# Altium footprint library soed_new.PcbLib: 46 footprints (part 1 of 3)
Each footprint in its own frame and in the unit in brackets; x right, y up, seen from the top. Pads: shape width x height; smd on the part's side, far side on the other; paste and mask are expansions set on the pad; w line width, h text height; cw(c..) or ccw(c..) is an arc to the next point about the centre after c.
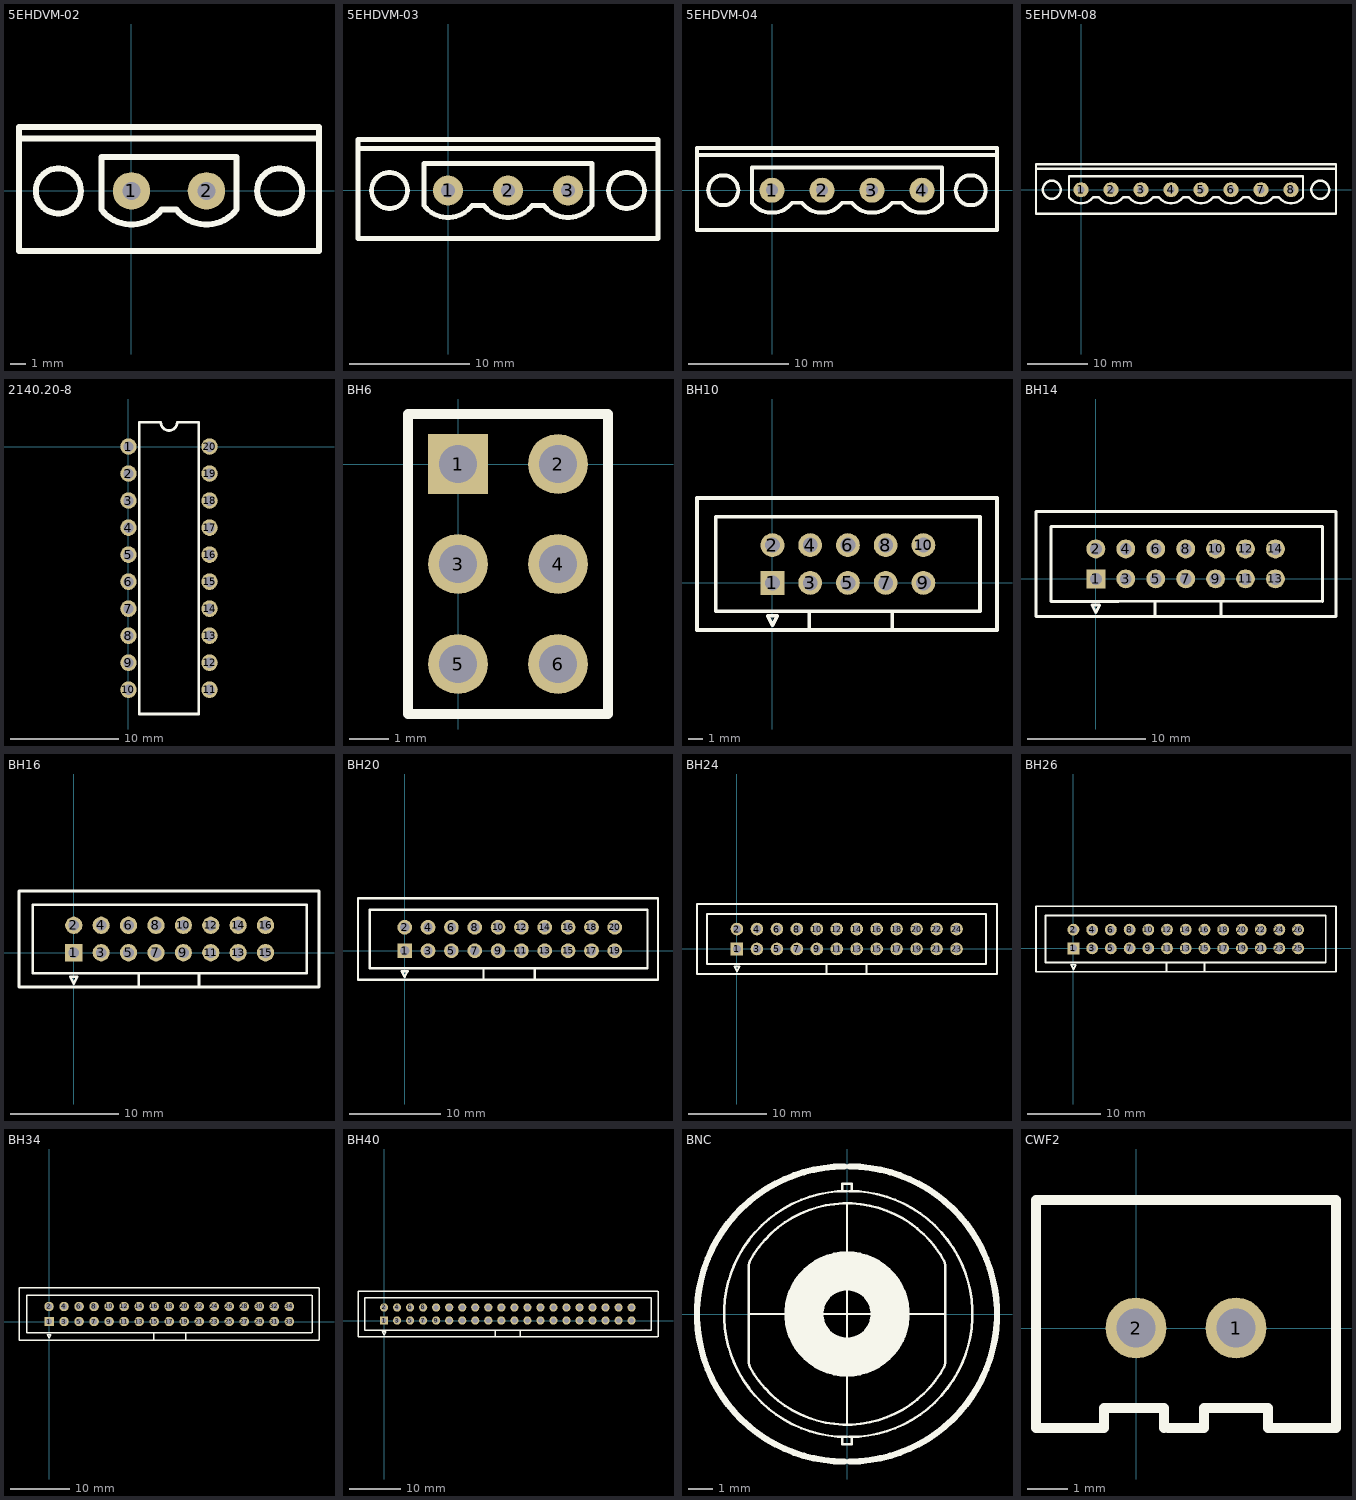
[diagram p0: the footprints below, top view; thin cyan lines are the x and y axes]

## 5EHDVM-02 [mm]
pads (2):
  round 2.5 hole 1.2: 1(0,0) 2(5,0)
Top Overlay:
  lines w0.4: -7.25,3.5 12.5,3.5 ; -2,-1.25 -2,2.25 7,2.25 7,-1.25 ; -1.999,-1.251 ccw(c0,0.25) 1.999,-1.251 ; 2,-1.25 3,-1.25 ; 3.001,-1.251 ccw(c5,0.25) 6.999,-1.251 ; -7.5,-4 12.5,-4 12.5,4.25 -7.5,4.25 -7.5,-4 ; -6.375,0 cw(c-4.875,0) -3.375,0 cw(c-4.875,0) -6.375,0 ; 8.375,0 cw(c9.875,0) 11.375,0 cw(c9.875,0) 8.375,0

## 5EHDVM-03 [mm]
pads (3):
  round 2.5 hole 1.2: 1(0,0) 2(5,0) 3(10,0)
Top Overlay:
  lines w0.4: -7.25,3.5 17.5,3.5 ; -2,-1.25 -2,2.25 12,2.25 12,-1.25 ; -1.999,-1.251 ccw(c0,0.25) 1.999,-1.251 ; 2,-1.25 3,-1.25 ; 3.001,-1.251 ccw(c5,0.25) 6.999,-1.251 ; 7,-1.25 8,-1.25 ; 8.001,-1.251 ccw(c10,0.25) 11.999,-1.251 ; -7.5,-4 17.5,-4 17.5,4.25 -7.5,4.25 -7.5,-4 ; -6.375,0 cw(c-4.875,0) -3.375,0 cw(c-4.875,0) -6.375,0 ; 13.375,0 ccw(c14.875,0) 16.375,0 ccw(c14.875,0) 13.375,0

## 5EHDVM-04 [mm]
pads (4):
  round 2.5 hole 1.2: 1(0,0) 2(5,0) 3(10,0) 4(15,0)
Top Overlay:
  lines w0.4: -7.25,3.5 22.5,3.5 ; -2,-1.25 -2,2.25 17,2.25 17,-1.25 ; -1.999,-1.251 ccw(c0,0.25) 1.999,-1.251 ; 2,-1.25 3,-1.25 ; 3.001,-1.251 ccw(c5,0.25) 6.999,-1.251 ; 7,-1.25 8,-1.25 ; 8.001,-1.251 ccw(c10,0.25) 11.999,-1.251 ; 12,-1.25 13,-1.25 ; 13.001,-1.251 ccw(c15,0.25) 16.999,-1.251 ; -7.5,-4 22.5,-4 22.5,4.25 -7.5,4.25 -7.5,-4 ; -6.375,0 cw(c-4.875,0) -3.375,0 cw(c-4.875,0) -6.375,0 ; 18.375,0 cw(c19.875,0) 21.375,0 cw(c19.875,0) 18.375,0

## 5EHDVM-08 [mm]
pads (8):
  round 2.5 hole 1.2: 1(0,0) 2(5,0) 3(10,0) 4(15,0) 5(20,0) 6(25,0) 7(30,0) 8(35,0)
Top Overlay:
  lines w0.4: -7.25,3.5 42.5,3.5 ; -2,-1.25 -2,2.25 37,2.25 37,-1.25 ; -1.999,-1.251 ccw(c0,0.25) 1.999,-1.251 ; 2,-1.25 3,-1.25 ; 3.001,-1.251 ccw(c5,0.25) 6.999,-1.251 ; 7,-1.25 8,-1.25 ; 8.001,-1.251 ccw(c10,0.25) 11.999,-1.251 ; 12,-1.25 13,-1.25 ; 13.001,-1.251 ccw(c15,0.25) 16.999,-1.251 ; 17,-1.25 18,-1.25 ; 18.001,-1.251 ccw(c20,0.25) 21.999,-1.251 ; 22,-1.25 23,-1.25 ; 23.001,-1.251 ccw(c25,0.25) 26.999,-1.251 ; 27,-1.25 28,-1.25 ; 28.001,-1.251 ccw(c30,0.25) 31.999,-1.251 ; 32,-1.25 33,-1.25 ; 33.001,-1.251 ccw(c35,0.25) 36.999,-1.251 ; -7.5,-4 42.5,-4 42.5,4.25 -7.5,4.25 -7.5,-4 ; -6.375,0 cw(c-4.875,0) -3.375,0 cw(c-4.875,0) -6.375,0 ; 38.375,0 cw(c39.875,0) 41.375,0 cw(c39.875,0) 38.375,0

## 2140.20-8 [mil]
pads (20):
  round 60 hole 38: 1(0,0) 2(0,-98.43) 3(0,-196.85) 4(0,-295.28) 5(0,-393.7) 6(0,-492.13) 7(0,-590.55) 8(0,-688.98) 9(0,-787.4) 10(0,-885.83) 11(295.28,-885.83) 12(295.28,-787.4) 13(295.28,-688.98) 14(295.28,-590.55) 15(295.28,-492.13) 16(295.28,-393.7) 17(295.28,-295.28) 18(295.28,-196.85) 19(295.28,-98.43) 20(295.28,0)
Top Overlay:
  lines w10: 39.37,-974.41 255.91,-974.41 255.91,88.58 177.64,88.58 cw(c147.64,88.58) 117.64,88.58 39.37,88.58 39.37,-974.41

## BH6 [mil]
pads (6):
  rect 60x60 hole 38: 1(0,0)
  round 60 hole 38: 2(100,0) 3(0,-100) 4(100,-100) 5(0,-200) 6(100,-200)
Top Overlay:
  lines w10: -50,-250 -50,50 150,50 150,-250 -50,-250

## BH10 [mm]
pads (10):
  rect 1.6x1.6 hole 1: 1(0,0)
  round 1.6 hole 1: 2(0,2.54) 3(2.54,0) 4(2.54,2.54) 5(5.08,0) 6(5.08,2.54) 7(7.62,0) 8(7.62,2.54) 9(10.16,0) 10(10.16,2.54)
Top Overlay:
  lines w0.25: 2.476,-3.175 2.476,-1.905 ; 8.064,-3.175 8.064,-1.905 ; -5.08,-3.175 15.113,-3.175 15.113,5.715 6.985,5.715 -5.08,5.715 -5.08,-3.175 ; -3.81,-1.905 1.905,-1.905 13.97,-1.905 13.97,4.445 -3.81,4.445 -3.81,-1.905 ; -0.318,-2.222 0,-2.857 0.318,-2.222 -0.318,-2.222

## BH14 [mm]
pads (14):
  rect 1.6x1.6 hole 1: 1(0,0)
  round 1.6 hole 1: 2(0,2.54) 3(2.54,0) 4(2.54,2.54) 5(5.08,0) 6(5.08,2.54) 7(7.62,0) 8(7.62,2.54) 9(10.16,0) 10(10.16,2.54) 11(12.7,0) 12(12.7,2.54) 13(15.24,0) 14(15.24,2.54)
Top Overlay:
  lines w0.25: 5.016,-3.175 5.016,-1.905 ; 10.604,-3.175 10.604,-1.905 ; 16.891,4.445 19.22,4.44 ; 17.145,4.445 -3.81,4.445 -3.81,-1.905 1.905,-1.905 19.22,-1.89 ; 18.161,5.715 20.33,5.7 ; 18.415,5.715 6.985,5.715 -5.08,5.715 -5.08,-3.175 20.38,-3.19 ; 19.231,-1.905 19.231,4.445 ; 20.374,-3.175 20.374,5.715 ; -0.318,-2.222 0.318,-2.222 0,-2.857 -0.318,-2.222

## BH16 [mm]
pads (16):
  rect 1.6x1.6 hole 1: 1(0,0)
  round 1.6 hole 1: 2(0,2.54) 3(2.54,0) 4(2.54,2.54) 5(5.08,0) 6(5.08,2.54) 7(7.62,0) 8(7.62,2.54) 9(10.16,0) 10(10.16,2.54) 11(12.7,0) 12(12.7,2.54) 13(15.24,0) 14(15.24,2.54) 15(17.78,0) 16(17.78,2.54)
Top Overlay:
  lines w0.25: 6.027,-3.175 6.027,-1.905 ; 11.615,-3.175 11.615,-1.905 ; 16.891,4.445 21.59,4.445 21.59,-1.905 1.905,-1.905 -3.81,-1.905 -3.81,4.445 17.145,4.445 ; 18.161,5.715 22.733,5.715 22.733,-3.175 -5.08,-3.175 -5.08,5.715 6.985,5.715 18.415,5.715 ; -0.318,-2.222 0.318,-2.222 0,-2.857 -0.318,-2.222

## BH20 [mm]
pads (20):
  rect 1.6x1.6 hole 1: 1(0,0)
  round 1.6 hole 1: 2(0,2.54) 3(2.54,0) 4(2.54,2.54) 5(5.08,0) 6(5.08,2.54) 7(7.62,0) 8(7.62,2.54) 9(10.16,0) 10(10.16,2.54) 11(12.7,0) 12(12.7,2.54) 13(15.24,0) 14(15.24,2.54) 15(17.78,0) 16(17.78,2.54) 17(20.32,0) 18(20.32,2.54) 19(22.86,0) 20(22.86,2.54)
Top Overlay:
  lines w0.25: 8.567,-3.175 8.567,-1.905 ; 14.155,-3.175 14.155,-1.905 ; 16.891,4.445 26.416,4.445 26.416,-1.905 1.905,-1.905 -3.81,-1.905 -3.81,4.445 17.145,4.445 ; 18.161,5.715 27.559,5.715 27.559,-3.175 -5.08,-3.175 -5.08,5.715 6.985,5.715 18.415,5.715 ; -0.318,-2.222 0.318,-2.222 0,-2.857 -0.318,-2.222

## BH24 [mm]
pads (24):
  rect 1.6x1.6 hole 1: 1(0,0)
  round 1.6 hole 1: 2(0,2.54) 3(2.54,0) 4(2.54,2.54) 5(5.08,0) 6(5.08,2.54) 7(7.62,0) 8(7.62,2.54) 9(10.16,0) 10(10.16,2.54) 11(12.7,0) 12(12.7,2.54) 13(15.24,0) 14(15.24,2.54) 15(17.78,0) 16(17.78,2.54) 17(20.32,0) 18(20.32,2.54) 19(22.86,0) 20(22.86,2.54) 21(25.4,0) 22(25.4,2.54) 23(27.94,0) 24(27.94,2.54)
Top Overlay:
  lines w0.25: 11.367,-3.175 11.367,-1.905 ; 16.51,-3.175 16.51,-1.905 ; 31.685,-1.905 1.905,-1.905 -3.81,-1.905 -3.81,4.445 17.145,4.445 31.685,4.445 ; 31.686,-1.905 31.686,4.445 ; 33.084,-3.175 33.084,5.715 ; 33.085,-3.175 30.48,-3.175 -5.08,-3.175 -5.08,5.715 6.985,5.715 18.415,5.715 33.085,5.715 ; -0.318,-2.222 0.318,-2.222 0,-2.857 -0.318,-2.222

## BH26 [mm]
pads (26):
  rect 1.6x1.6 hole 1: 1(0,0)
  round 1.6 hole 1: 2(0,2.54) 3(2.54,0) 4(2.54,2.54) 5(5.08,0) 6(5.08,2.54) 7(7.62,0) 8(7.62,2.54) 9(10.16,0) 10(10.16,2.54) 11(12.7,0) 12(12.7,2.54) 13(15.24,0) 14(15.24,2.54) 15(17.78,0) 16(17.78,2.54) 17(20.32,0) 18(20.32,2.54) 19(22.86,0) 20(22.86,2.54) 21(25.4,0) 22(25.4,2.54) 23(27.94,0) 24(27.94,2.54) 25(30.48,0) 26(30.48,2.54)
Top Overlay:
  lines w0.25: 12.636,-3.175 12.636,-1.905 ; 17.78,-3.175 17.78,-1.905 ; 34.163,-1.905 1.905,-1.905 -3.81,-1.905 -3.81,4.445 17.145,4.445 34.163,4.445 ; 34.227,-1.905 34.227,4.445 ; 35.56,-3.175 30.48,-3.175 -5.08,-3.175 -5.08,5.715 6.985,5.715 18.415,5.715 35.56,5.715 ; 35.623,-3.175 35.623,5.715 ; -0.318,-2.222 0.318,-2.222 0,-2.857 -0.318,-2.222

## BH34 [mm]
pads (34):
  rect 1.6x1.6 hole 1: 1(0,0)
  round 1.6 hole 1: 2(0,2.54) 3(2.54,0) 4(2.54,2.54) 5(5.08,0) 6(5.08,2.54) 7(7.62,0) 8(7.62,2.54) 9(10.16,0) 10(10.16,2.54) 11(12.7,0) 12(12.7,2.54) 13(15.24,0) 14(15.24,2.54) 15(17.78,0) 16(17.78,2.54) 17(20.32,0) 18(20.32,2.54) 19(22.86,0) 20(22.86,2.54) 21(25.4,0) 22(25.4,2.54) 23(27.94,0) 24(27.94,2.54) 25(30.48,0) 26(30.48,2.54) 27(33.02,0) 28(33.02,2.54) 29(35.56,0) 30(35.56,2.54) 31(38.1,0) 32(38.1,2.54) 33(40.64,0) 34(40.64,2.54)
Top Overlay:
  lines w0.25: 17.685,-3.175 17.685,-1.905 ; 23.082,-3.175 23.082,-1.905 ; 44.45,-1.905 1.905,-1.905 -3.81,-1.905 -3.81,4.445 17.145,4.445 41.275,4.445 44.45,4.445 ; 44.514,-1.905 44.514,4.445 ; 45.593,-3.175 40.64,-3.175 30.48,-3.175 -5.08,-3.175 -5.08,5.715 6.985,5.715 18.415,5.715 45.593,5.715 ; 45.657,-3.175 45.657,5.715 ; -0.318,-2.222 0.318,-2.222 0,-2.857 -0.318,-2.222

## BH40 [mm]
pads (40):
  rect 1.6x1.6 hole 1: 1(0,0)
  round 1.6 hole 1: 2(0,2.54) 3(2.54,0) 4(2.54,2.54) 5(5.08,0) 6(5.08,2.54) 7(7.62,0) 8(7.62,2.54) 9(10.16,0) 10(10.16,2.54) 11(12.7,0) 12(12.7,2.54) 13(15.24,0) 14(15.24,2.54) 15(17.78,0) 16(17.78,2.54) 17(20.32,0) 18(20.32,2.54) 19(22.86,0) 20(22.86,2.54) 21(25.4,0) 22(25.4,2.54) 23(27.94,0) 24(27.94,2.54) 25(30.48,0) 26(30.48,2.54) 27(33.02,0) 28(33.02,2.54) 29(35.56,0) 30(35.56,2.54) 31(38.1,0) 32(38.1,2.54) 33(40.64,0) 34(40.64,2.54) 35(43.18,0) 36(43.18,2.54) 37(45.72,0) 38(45.72,2.54) 39(48.26,0) 40(48.26,2.54)
Top Overlay:
  lines w0.25: 21.653,-3.175 21.653,-1.905 ; 26.543,-3.175 26.543,-1.905 ; 52.07,-1.905 51.117,-1.905 50.8,-1.905 1.905,-1.905 -3.81,-1.905 -3.81,4.445 17.145,4.445 41.275,4.445 52.07,4.445 ; 52.133,-1.905 52.133,4.445 ; 53.34,-3.175 40.64,-3.175 30.48,-3.175 -5.08,-3.175 -5.08,5.715 6.985,5.715 18.415,5.715 53.34,5.715 ; 53.404,-3.175 53.404,5.715 ; -0.318,-2.222 0.318,-2.222 0,-2.857 -0.318,-2.222
Mechanical 1:
  lines w0.25: 50.8,-1.905 51.117,-1.905

## BNC [mil]
Top Overlay:
  region: -96.46,-17.72 -86.61,-47.24 -76.77,-62.99 -61.02,-76.77 -29.53,-94.49 0,-98.43 27.56,-94.49 57.09,-80.71 72.83,-64.96 90.55,-43.31 98.43,-13.78 98.43,7.87 39.37,7.87 39.37,-7.87 31.5,-23.62 19.68,-35.43 -3.94,-39.37 -19.68,-35.43 -35.43,-19.68 -37.4,-13.78
  region: -82.68,51.18 -90.55,37.4 -98.43,9.84 -96.46,-19.68 -35.43,-15.75 -39.37,0 -35.43,17.72 -17.72,37.4 11.81,39.37 31.5,25.59 39.37,5.91 96.46,5.91 96.46,21.65 86.61,47.24 66.93,70.87 35.43,92.52 1.97,98.43 -31.5,94.49 -57.09,78.74 -70.87,66.93
  lines w3.94: -157.48,0 157.48,0 ; -155.99,-83.99 ccw(c0,0) 156.86,-82.35 ; -155.99,83.99 cw(c0,0) 156.86,82.35 ; -155.51,-84.65 -157.48,-78.74 -157.48,78.74 -155.51,84.65 ; -7.87,-196.85 -7.87,-208.66 7.87,-208.66 7.87,-196.85 ; -7.87,196.85 -7.87,208.66 7.87,208.66 7.87,196.85 ; 0,-196.85 cw(c0,0) 0,196.85 ; 0,-177.17 0,177.17 ; 3.94,-196.85 ccw(c3.94,0) 3.94,196.85 ; 155.51,-84.65 157.48,-78.74 157.48,78.74 155.51,84.65 ; 0,-98.43 cw(c0,0) 0,98.43 cw(c0,0) 0,-98.43 ; 0,-39.57 cw(c0,0) 0,39.57 cw(c0,0) 0,-39.57
  lines w10: -3.94,-236.22 cw(c-3.94,0) -3.94,236.22 ; 3.94,-236.22 ccw(c3.94,0) 3.94,236.22

## CWF2 [mil]
pads (2):
  round 60 hole 38: 1(98.43,0) 2(0,0)
Top Overlay:
  lines w10: 27.56,-98.43 27.56,-78.74 -31.5,-78.74 -31.5,-98.43 -98.43,-98.43 -98.43,125.98 196.85,125.98 196.85,-98.43 129.92,-98.43 129.92,-78.74 66.93,-78.74 66.93,-98.43 31.5,-98.43